# EAGLE library part MAX6818EAP+T (library SamacSys_Parts)
MAXIM INTEGRATED PRODUCTS - MAX6818EAP+T. - ESD PROTE WITH SWITCH DEBOUNCER, SSOP-20 Source: Datasheet
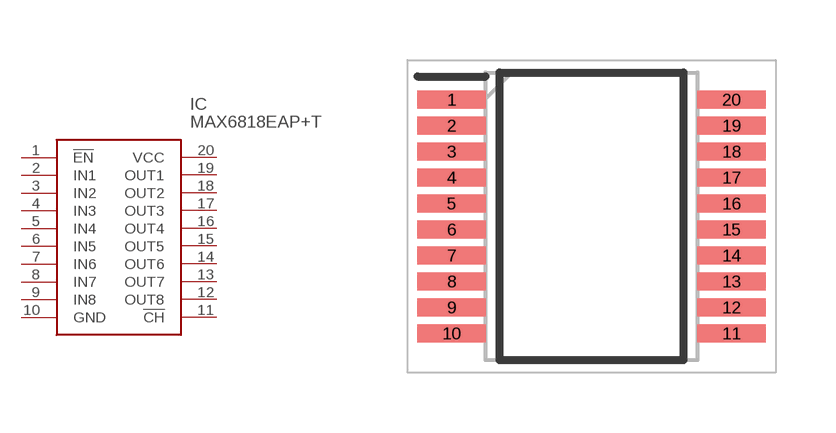
[diagram p3: symbol with the pads of SOP65P778X199-20N; footprint SOP65P778X199-20N]

Designator prefix IC

## MAX6818EAP+T (Description: MAXIM INTEGRATED PRODUCTS - MAX6818EAP+T. - ESD PROTE WITH SWITCH DEBOUNCER, SSOP-20; Height: 1.99mm; Manufacturer_Name: Maxim Integrated; Manufacturer_Part_Number: MAX6818EAP+T; Mouser_Part_Number: 700-MAX6818EAPT; Mouser_Price-Stock: https://www.mouser.co.uk/ProductDetail/Maxim-Integrated/MAX6818EAP%2bT?qs=CDqwynd4ZNoKt6d34O8j%252BA%3D%3D)  [SOP65P778X199-20N]
1  !EN  in
2  IN1  in
3  IN2  in
4  IN3  in
5  IN4  in
6  IN5  in
7  IN6  in
8  IN7  in
9  IN8  in
10  GND  pwr
11  !CH  out
12  OUT8  out
13  OUT7  out
14  OUT6  out
15  OUT5  out
16  OUT4  out
17  OUT3  out
18  OUT2  out
19  OUT1  out
20  VCC  pwr

## Footprint SOP65P778X199-20N (pad centres in mm)
20 SSOP
smd 1.705 x 0.45: 1 -3.498,2.925; 2 -3.498,2.275; 3 -3.498,1.625; 4 -3.498,0.975; 5 -3.498,0.325; 6 -3.498,-0.325; 7 -3.498,-0.975; 8 -3.498,-1.625; 9 -3.498,-2.275; 10 -3.498,-2.925; 11 3.498,-2.925; 12 3.498,-2.275; 13 3.498,-1.625; 14 3.498,-0.975; 15 3.498,-0.325; 16 3.498,0.325; 17 3.498,0.975; 18 3.498,1.625; 19 3.498,2.275; 20 3.498,2.925